# EAGLE library part BQ2407X (library kennethlimcp)
1.5-A USB-Friendly Li-Ion Battery Charger and Power-Path Management IC Series: bq24072, bq24073, bq24074, bq24075, bq24079
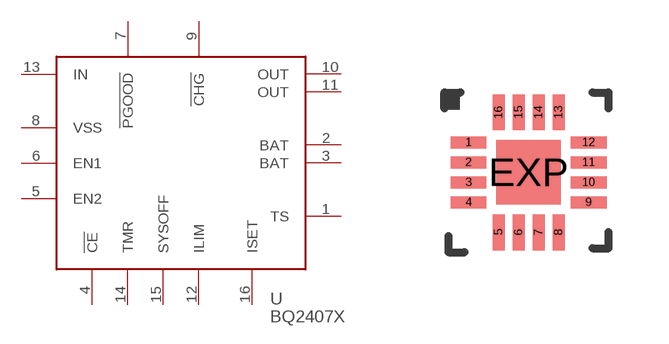
[diagram p7: symbol with the pads of PVQFN-16; footprint PVQFN-16]

Designator prefix -

## BQ2407X5  [PVQFN-16]
1  TS
2  BAT
3  BAT
4  !CE
5  EN2
6  EN1
7  !PGOOD
8  VSS
9  !CHG
10  OUT
11  OUT
12  ILIM
13  IN
14  TMR
15  SYSOFF
16  ISET

## Footprint PVQFN-16 (pad centres in mm)
smd 0.9 x 0.3: 1 -1.5,0.75; 2 -1.5,0.25; 3 -1.5,-0.25; 4 -1.5,-0.75; 9 1.5,-0.75; 10 1.5,-0.25; 11 1.5,0.25; 12 1.5,0.75
smd 0.3 x 0.9: 5 -0.75,-1.5; 6 -0.25,-1.5; 7 0.25,-1.5; 8 0.75,-1.5; 13 0.75,1.5; 14 0.25,1.5; 15 -0.25,1.5; 16 -0.75,1.5
smd 1.6 x 1.6: EXP 0,0